# Altium footprint library footprints.PcbLib: 17 footprints (part 2 of 2)
Each footprint in its own frame and in the unit in brackets; x right, y up, seen from the top. Pads: shape width x height; smd on the part's side, far side on the other; paste and mask are expansions set on the pad; w line width, h text height; cw(c..) or ccw(c..) is an arc to the next point about the centre after c.
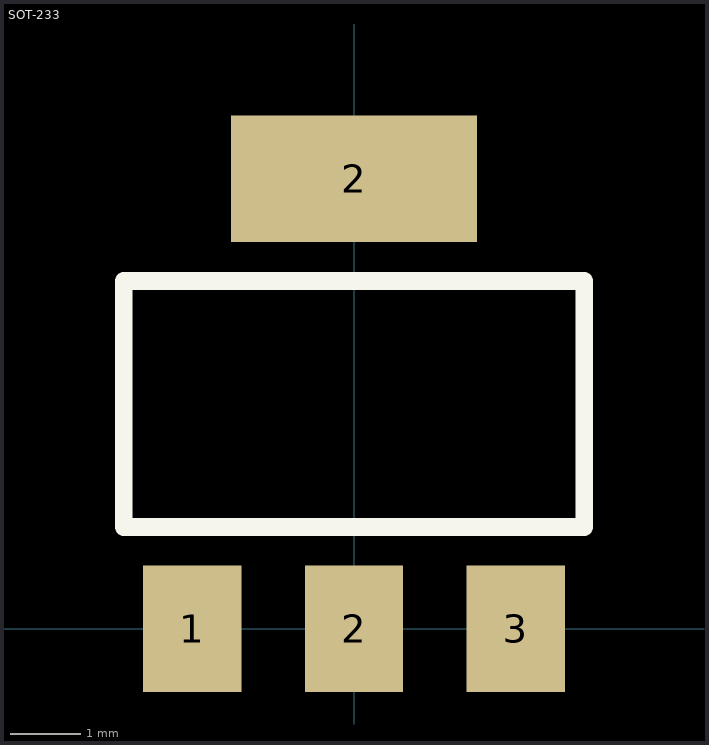
[diagram p1: the footprint, top view; thin cyan lines are the x and y axes]

## SOT-233 [mm]
pads (4):
  rect 1.4x1.8 smd: 1(-2.3,0) 2(0,0) 3(2.3,0)
  rect 3.5x1.8 smd: 2(0,6.4)
Top Overlay:
  lines w0.254: -3.275,1.45 3.275,1.45 3.275,4.95 -3.275,4.95 -3.275,1.45
3D body "AMS1117 Sot 223.step": height 1.8, standoff -0.22, extent -3.25,-0.512 3.25,6.86